# Altium footprint library TE_CONN_120958-1.PcbLib: 1 footprints
Each footprint in its own frame and in the unit in brackets; x right, y up, seen from the top. Pads: shape width x height; smd on the part's side, far side on the other; paste and mask are expansions set on the pad; w line width, h text height; cw(c..) or ccw(c..) is an arc to the next point about the centre after c.
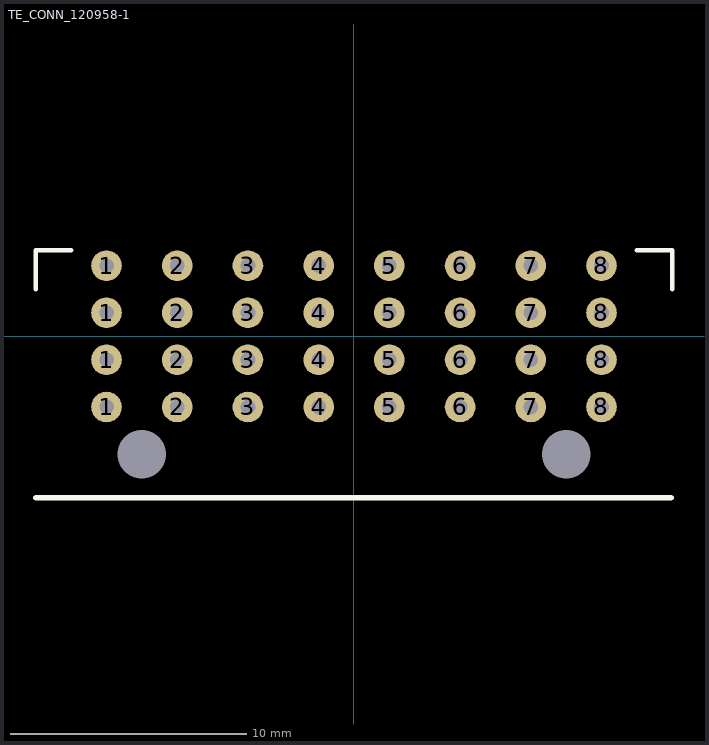
[diagram p0: the footprint, top view; thin cyan lines are the x and y axes]

## TE_CONN_120958-1 [mm] "TE Connectivity 8-pos male blade connector"
pads (34):
  round 0 hole 2.05 unplated: 0(9,-5) 1(-9,-5)
  round 1.3 hole 0.615: 1(-10.5,-3) 1(-10.5,-1) 1(-10.5,1) 1(-10.5,3)
  round 1.3 hole 0.625: 2(-7.5,-3) 2(-7.5,-1) 2(-7.5,1) 2(-7.5,3) 3(-4.5,-3) 3(-4.5,-1) 3(-4.5,1) 3(-4.5,3) 4(-1.5,-3) 4(-1.5,-1) 4(-1.5,1) 4(-1.5,3) 5(1.5,-3) 5(1.5,-1) 5(1.5,1) 5(1.5,3) 6(4.5,-3) 6(4.5,-1) 6(4.5,1) 6(4.5,3) 7(7.5,-3) 7(7.5,-1) 7(7.5,1) 7(7.5,3) 8(10.5,-3) 8(10.5,-1) 8(10.5,1) 8(10.5,3)
Top Overlay:
  lines w0.2: -13.5,2 -13.5,3.65 -12,3.65 ; 12,3.65 13.5,3.65 13.5,2
  lines w0.25: -13.5,-6.85 13.45,-6.85
3D body "TE_CONN_120958-1.stp": height 9.7, standoff -4.58, extent -13.475,-18.7 13.475,3.64